# Altium footprint library buck_5V.PcbLib: 1 footprints
Each footprint in its own frame and in the unit in brackets; x right, y up, seen from the top. Pads: shape width x height; smd on the part's side, far side on the other; paste and mask are expansions set on the pad; w line width, h text height; cw(c..) or ccw(c..) is an arc to the next point about the centre after c.
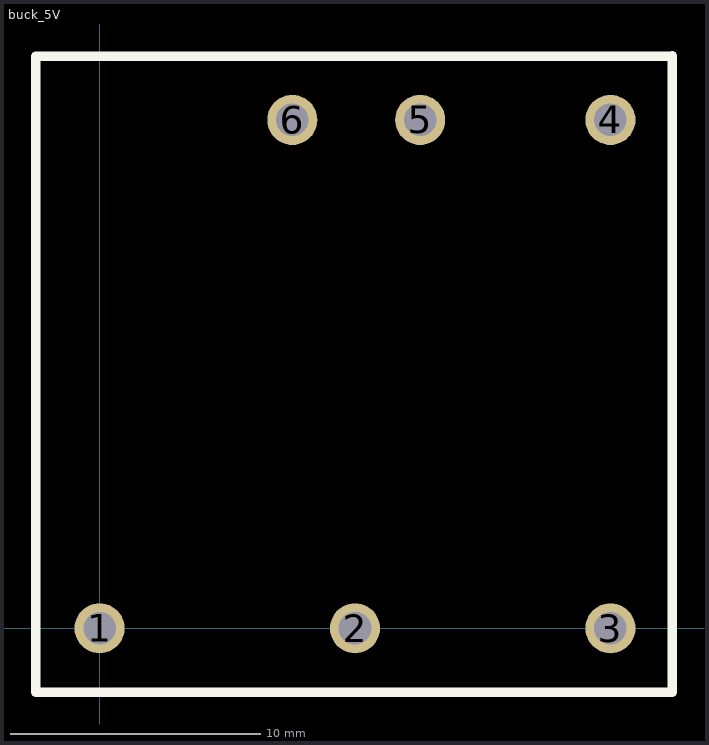
[diagram p0: the footprint, top view; thin cyan lines are the x and y axes]

## buck_5V [mm]
pads (6):
  round 2 hole 1.3: 1(0,0) 2(10.2,0) 3(20.4,0) 4(20.4,20.3) 5(12.8,20.3) 6(7.7,20.3)
Top Overlay:
  lines w0.381: 22.86,22.85 -2.54,22.85 -2.54,-2.55 22.86,-2.55 22.86,22.86